# Altium footprint library MEGA.PcbLib: 237 footprints (part 11 of 15)
Each footprint in its own frame and in the unit in brackets; x right, y up, seen from the top. Pads: shape width x height; smd on the part's side, far side on the other; paste and mask are expansions set on the pad; w line width, h text height; cw(c..) or ccw(c..) is an arc to the next point about the centre after c.
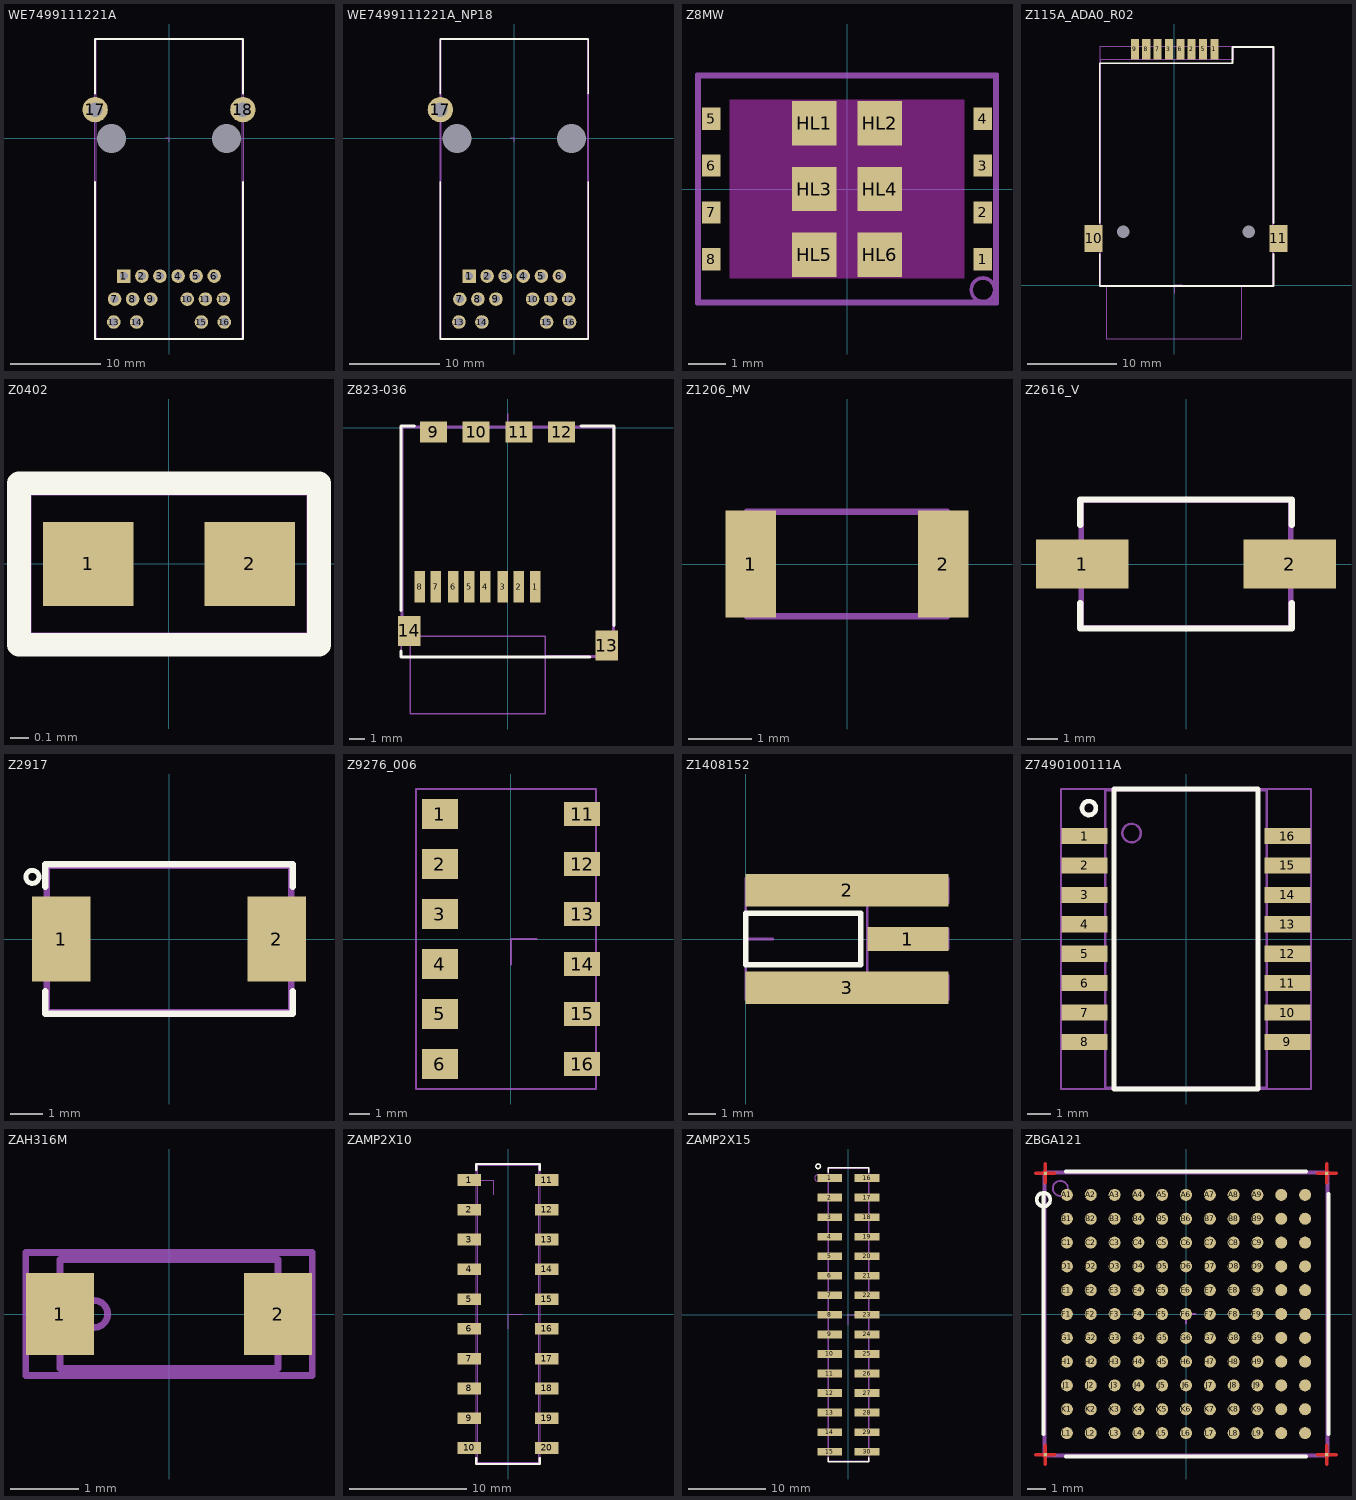
[diagram p10: the footprints below, top view; thin cyan lines are the x and y axes]

## WE7499111221A [mm]
height 17.27
pads (20):
  rect 1.5x1.5 hole 0.9 mask+0.05: 1(-5,-15.24)
  round 1.5 hole 0.9 mask+0.05: 2(-3,-15.24) 3(-1,-15.24) 4(1,-15.24) 5(3,-15.24) 6(5,-15.24) 7(-6.025,-17.78) 8(-4.025,-17.78) 9(-2.025,-17.78) 10(2.025,-17.78) 11(4.025,-17.78) 12(6.025,-17.78)
  round 1.5 hole 1 mask+0.05: 13(-6.12,-20.32) 14(-3.58,-20.32) 15(3.58,-20.32) 16(6.12,-20.32)
  round 2.8 hole 1.6 mask+0.05: 17(-8.175,3.18) 18(8.175,3.18)
  round 0 hole 3.2 unplated: HL1(6.35,0) HL2(-6.35,0)
Top Overlay:
  lines w0.2: -8.191,-4.805 -8.191,-22.2 8.191,-22.2 8.191,-4.805 ; -8.191,4.953 -8.191,11 8.191,11 8.191,4.953
Mechanical 15:
  lines w0.1: -8.128,-22.1 -8.128,10.9 8.128,10.9 8.128,-22.1 -8.128,-22.1
Mechanical 19:
  lines w0.1: -0.381,0 0,0 0,-0.381
Mechanical 20:
  lines w0.1: -8.191,-22.2 8.191,-22.2 8.191,11 -8.191,11 -8.191,-22.2

## WE7499111221A_NP18 [mm]
height 17.27
pads (19):
  rect 1.5x1.5 hole 0.9 mask+0.05: 1(-5,-15.24)
  round 1.5 hole 0.9 mask+0.05: 2(-3,-15.24) 3(-1,-15.24) 4(1,-15.24) 5(3,-15.24) 6(5,-15.24) 7(-6.025,-17.78) 8(-4.025,-17.78) 9(-2.025,-17.78) 10(2.025,-17.78) 11(4.025,-17.78) 12(6.025,-17.78)
  round 1.5 hole 1 mask+0.05: 13(-6.12,-20.32) 14(-3.58,-20.32) 15(3.58,-20.32) 16(6.12,-20.32)
  round 2.8 hole 1.6 mask+0.05: 17(-8.175,3.18)
  round 0 hole 3.2 unplated: HL1(6.35,0) HL2(-6.35,0)
Top Overlay:
  lines w0.2: -8.191,-4.805 -8.191,-22.2 8.191,-22.2 8.191,-4.805 ; -8.191,4.953 -8.191,11 8.191,11 8.191,4.953
Mechanical 15:
  lines w0.1: -8.128,-22.1 -8.128,10.9 8.128,10.9 8.128,-22.1 -8.128,-22.1
Mechanical 19:
  lines w0.1: -0.381,0 0,0 0,-0.381
Mechanical 20:
  lines w0.1: -8.191,-22.2 8.191,-22.2 8.191,11 -8.191,11 -8.191,-22.2

## Z8MW [mm]
pads (14):
  rect 0.5x0.6 smd paste-0.045 mask+0.05: 1(3.683,-1.905) 2(3.683,-0.635) 3(3.683,0.635) 4(3.683,1.905) 5(-3.683,1.905) 6(-3.683,0.635) 7(-3.683,-0.635) 8(-3.683,-1.905)
  rect 1.2x1.2 smd paste-0.09 mask+0.05: HL1(-0.889,1.778) HL2(0.889,1.778) HL3(-0.889,0) HL4(0.889,0) HL5(-0.889,-1.778) HL6(0.889,-1.778)
L1-Top Layer keep-out:
  region: -3.175,2.413 3.175,2.413 3.175,-2.413 -3.175,-2.413
Mechanical 15:
  circle w0.1: c3.683,-2.73 r0.318
  lines w0.1: -4,-3.048 -4,3.048 4,3.048 4,-3.048 -4,-3.048
Multi-Layer:
  text "Value" at -0.824,-0.681 h0.5
Mechanical 20:
  lines w0.1: -4.064,-3.111 -4.064,3.111 4.064,3.111 4.064,-3.111 -4.064,-3.111

## Z115A_ADA0_R02 [mm]
pads (12):
  rect 0.9x2.3 smd paste-0.17 mask+0.1: 1(4.51,26.4) 2(1.97,26.4) 3(-0.57,26.4) 5(3.24,26.4) 6(0.7,26.4) 7(-1.84,26.4) 8(-3.11,26.4) 9(-4.38,26.4)
  rect 2x3 smd paste-0.225 mask+0.1: 10(-8.99,5.25) 11(11.66,5.25)
  round 0 hole 1.4 unplated: HL1(8.34,6) HL2(-5.66,6)
Top Overlay:
  lines w0.2: -8.319,3.492 -8.319,-0.064 11.112,-0.064 11.112,3.492 ; -8.319,6.985 -8.319,24.828 6.54,24.828 6.54,26.67 11.112,26.67 11.112,6.985
Mechanical 15:
  lines w0.1: -8.253,0 -8.253,25.25 6.606,25.25 6.606,26.591 11.051,26.591 11.051,0 -8.253,0 ; -7.5,-6 7.5,-6 7.5,0 -7.5,0 -7.5,-6
Multi-Layer:
  text "Value" at -0.091,13.974 h0.75
Mechanical 19:
  lines w0.1: 0,-0.9 0,0 0.91,0
Mechanical 20:
  lines w0.1: -8.319,-0.064 -8.319,26.67 11.112,26.67 11.112,-0.064 -8.319,-0.064

## Z0402 [mm]
height 0.55
pads (2):
  rect 0.5x0.46 smd mask+0.05: 1(-0.445,0) 2(0.445,0)
Top Overlay:
  lines w0.13: -0.826,-0.445 0.826,-0.445 0.826,0.445 -0.826,0.445 -0.826,-0.445
Mechanical 15:
  lines w0.01: -0.762,-0.381 0.762,-0.381 0.762,0.381 -0.762,0.381 -0.762,-0.381
Multi-Layer:
  text "Value" at -0.514,-0.105 h0.4
Mechanical 20:
  lines w0.01: -0.826,-0.445 0.826,-0.445 0.826,0.445 -0.826,0.445 -0.826,-0.445

## Z823-036 [mm]
pads (14):
  rect 0.7x2.1 smd paste-0.115 mask+0.05: 1(1.826,-10.604) 2(0.747,-10.604) 3(-0.333,-10.604) 4(-1.476,-10.604) 5(-2.555,-10.604) 6(-3.635,-10.604) 7(-4.778,-10.604) 8(-5.85,-10.604)
  rect 1.8x1.4 smd paste-0.135 mask+0.05: 9(-4.95,-0.3) 10(-2.1,-0.3) 11(0.75,-0.3) 12(3.6,-0.3)
  rect 1.5x2 smd paste-0.15 mask+0.05: 13(6.6,-14.55) 14(-6.55,-13.55)
Top Overlay:
  lines w0.2: -7.1,-14.9 -7.1,-15.3 5.5,-15.3 ; -7.1,-12.2 -7.1,0.1 -6.2,0.1 ; 4.9,0.1 7.1,0.1 7.1,-13.2
Mechanical 15:
  lines w0.1: -6.5,-13.9 -6.5,-14.2 -7,-14.2 -7,0 7,0 7,-15.2 2.5,-15.2 2.5,-13.9 ; -6.5,-13.9 2.5,-13.9 ; -6.5,-13.9 -6.5,-19.1 2.5,-19.1 2.5,-13.9 ; -6.5,-13.9 2.5,-13.9
Multi-Layer:
  text "Value" at -1.235,-7.125 h0.75
Mechanical 19:
  lines w0.1: -0.91,0 0,0 0,0.9
Mechanical 20:
  lines w0.1: -7.1,0.064 -7.1,-15.3 7.1,-15.3 7.1,0.1 -7.048,0.1

## Z1206_MV [mm]
pads (2):
  rect 0.8x1.7 smd paste-0.13 mask+0.05: 1(-1.524,0) 2(1.524,0)
Mechanical 15:
  lines w0.1: -1.587,-0.826 1.587,-0.826 1.587,0.826 -1.587,0.826 -1.587,-0.826

## Z2616_V [mm]
pads (2):
  rect 3x1.6 smd paste-0.225 mask+0.05: 1(-3.365,0) 2(3.365,0)
Top Overlay:
  lines w0.2: -3.429,-1.27 -3.429,-2.095 3.429,-2.095 3.429,-1.27 ; -3.429,1.27 -3.429,2.095 3.429,2.095 3.429,1.27
Mechanical 15:
  lines w0.1: -3.365,-2.032 3.365,-2.032 3.365,2.032 -3.365,2.032 -3.365,-2.032
Multi-Layer:
  text "Value" at -1.235,-1.314 h0.75
Mechanical 20:
  lines w0.1: -3.429,-2.095 3.429,-2.095 3.429,2.095 -3.429,2.095 -3.429,-2.095

## Z2917 [mm]
pads (2):
  rect 1.8x2.6 smd paste-0.195 mask+0.05: 1(-3.302,0) 2(3.302,0)
Top Overlay:
  circle w0.15: c-4.191,1.905 r0.2
  lines w0.2: -3.8,-1.6 -3.8,-2.3 3.8,-2.3 3.8,-1.6 ; -3.8,1.6 -3.8,2.3 3.8,2.3 3.8,1.6
Mechanical 15:
  lines w0.1: -3.7,-2.2 3.7,-2.2 3.7,2.2 -3.7,2.2 -3.7,-2.2
  text "+" at -3.457,1.129 h1.25
Multi-Layer:
  text "Value" at -1.235,-1.822 h0.75
Mechanical 20:
  lines w0.1: -3.8,-2.3 3.8,-2.3 3.8,2.3 -3.8,2.3 -3.8,-2.3

## Z9276_006 [mm]
pads (12):
  rect 1.8x1.5 smd paste-0.135 mask+0.05: 1(-3.556,6.25) 2(-3.556,3.75) 3(-3.556,1.25) 4(-3.556,-1.25) 5(-3.556,-3.75) 6(-3.556,-6.25)
  rect 1.8x1.2 smd paste-0.135 mask+0.05: 11(3.556,6.25) 12(3.556,3.75) 13(3.556,1.25) 14(3.556,-1.25) 15(3.556,-3.75) 16(3.556,-6.25)
Mechanical 15:
  lines w0.1: -4.75,-7.5 4.25,-7.5 4.25,7.5 -4.75,7.5 -4.75,-7.5
Mechanical 19:
  lines w0.1: 0,-1.27 0,0 1.27,0

## Z1408152 [mm]
pads (3):
  rect 3x0.9 smd mask+0.05: 1(6,0)
  rect 7.5x1.2 smd mask+0.05: 2(3.75,1.8) 3(3.75,-1.8)
Top Overlay:
  lines w0.2: 0,-0.953 4.255,-0.953 4.255,0.953 0,0.953 0,-0.953
Mechanical 15:
  lines w0.1: 4.5,-2.25 4.5,2.25 ; 4.5,-2.25 0,-2.25 0,2.25 4.5,2.25 ; 4.5,-2.25 7.5,-2.25 7.5,-1.35 4.5,-1.35 4.5,-2.25 ; 4.5,2.25 7.5,2.25 7.5,1.35 4.5,1.35 4.5,2.25 ; 4.5,-0.35 7.5,-0.35 7.5,0.35 4.5,0.35 4.5,-0.35
Multi-Layer:
  text "Value" at 1.365,-0.725 h0.75
Mechanical 19:
  lines w0.1: 0,-1 0,0 1,0 ; 0,-1.75 0,1.75 4.5,1.75 4.5,-1.75 0,-1.75

## Z7490100111A [mm]
height 1.75
pads (16):
  rect 2x0.7 smd paste-0.15 mask+0.05: 1(-4.381,4.445) 2(-4.381,3.175) 3(-4.381,1.905) 4(-4.381,0.635) 5(-4.381,-0.635) 6(-4.381,-1.905) 7(-4.381,-3.175) 8(-4.381,-4.445) 9(4.381,-4.445) 10(4.381,-3.175) 11(4.381,-1.905) 12(4.381,-0.635) 13(4.381,0.635) 14(4.381,1.905) 15(4.381,3.175) 16(4.381,4.445)
Top Overlay:
  circle w0.2: c-4.191,5.651 r0.3
  lines w0.2: -3.111,-6.477 3.111,-6.477 3.111,6.477 -3.111,6.477 -3.111,-6.477
Mechanical 15:
  circle w0.1: c-2.349,4.572 r0.4
  lines w0.1: -3.492,-6.413 3.492,-6.413 3.492,6.413 -3.492,6.413 -3.492,-6.413
Multi-Layer:
  text "Value" at -1.299,-1.568 h0.75
Mechanical 20:
  lines w0.1: -5.397,-6.477 5.397,-6.477 5.397,6.477 -5.397,6.477 -5.397,-6.477

## ZAH316M [mm]
height 1.25
pads (2):
  rect 1x1.2 smd paste-0.09 mask+0.05: 1(-1.6,0) 2(1.6,0)
Mechanical 15:
  circle w0.1: c-1.1,0 r0.2
  lines w0.1: -1.6,-0.8 1.6,-0.8 1.6,0.8 -1.6,0.8 -1.6,-0.8
Mechanical 20:
  lines w0.1: -2.1,-0.9 2.1,-0.9 2.1,0.9 -2.1,0.9 -2.1,-0.9

## ZAMP2X10 [mm]
pads (20):
  rect 2x1 smd paste-0.15 mask+0.1: 1(-3.302,11.43) 2(-3.302,8.89) 3(-3.302,6.35) 4(-3.302,3.81) 5(-3.302,1.27) 6(-3.302,-1.27) 7(-3.302,-3.81) 8(-3.302,-6.35) 9(-3.302,-8.89) 10(-3.302,-11.43) 11(3.302,11.43) 12(3.302,8.89) 13(3.302,6.35) 14(3.302,3.81) 15(3.302,1.27) 16(3.302,-1.27) 17(3.302,-3.81) 18(3.302,-6.35) 19(3.302,-8.89) 20(3.302,-11.43)
Top Overlay:
  lines w0.2: -2.7,-12.3 -2.7,-12.8 2.7,-12.8 2.7,-12.3 ; -2.7,12.3 -2.7,12.8 2.7,12.8 2.7,12.3
Mechanical 15:
  lines w0.1: -2.6,-12.7 2.6,-12.7 2.6,12.7 -2.6,12.7 -2.6,-12.7
Multi-Layer:
  text "Value" at -1.235,-1.695 h0.75
Mechanical 19:
  lines w0.1: -2.54,11.43 -1.27,11.43 -1.27,10.16 ; 0,-1.27 0,0 1.27,0
Mechanical 20:
  lines w0.1: -2.7,-12.8 2.7,-12.8 2.7,12.8 -2.7,12.8 -2.7,-12.8

## ZAMP2X15 [mm]
pads (30):
  rect 3.2x1 smd paste-0.35 mask+0.05: 1(-2.413,17.78) 2(-2.413,15.24) 3(-2.413,12.7) 4(-2.413,10.16) 5(-2.413,7.62) 6(-2.413,5.08) 7(-2.413,2.54) 8(-2.413,0) 9(-2.413,-2.54) 10(-2.413,-5.08) 11(-2.413,-7.62) 12(-2.413,-10.16) 13(-2.413,-12.7) 14(-2.413,-15.24) 15(-2.413,-17.78) 16(2.413,17.78) 17(2.413,15.24) 18(2.413,12.7) 19(2.413,10.16) 20(2.413,7.62) 21(2.413,5.08) 22(2.413,2.54) 23(2.413,0) 24(2.413,-2.54) 25(2.413,-5.08) 26(2.413,-7.62) 27(2.413,-10.16) 28(2.413,-12.7) 29(2.413,-15.24) 30(2.413,-17.78)
Top Overlay:
  circle w0.2: c-3.937,19.304 r0.3
  lines w0.2: -2.603,-18.542 -2.603,-19.113 2.603,-19.113 2.603,-18.542 ; -2.603,18.542 -2.603,19.113 2.603,19.113 2.603,18.542
Mechanical 15:
  circle w0.1: c-4,17.78 r0.4
  lines w0.1: -2.54,-19.05 2.54,-19.05 2.54,19.05 -2.54,19.05 -2.54,-19.05
Multi-Layer:
  text "Value" at -1.235,-1.695 h0.75
Mechanical 19:
  lines w0.1: 0,-1.27 0,0 1.27,0
Mechanical 20:
  lines w0.1: -2.603,-19.113 2.603,-19.113 2.603,19.113 -2.603,19.113 -2.603,-19.113

## ZBGA121 [mm]
pads (125):
  round 0.64 smd paste-0.05 mask+0.05: A1(-6.35,6.35) A2(-5.08,6.35) A3(-3.81,6.35) A4(-2.54,6.35) A5(-1.27,6.35) A6(0,6.35) A7(1.27,6.35) A8(2.54,6.35) A9(3.81,6.35) A10(5.08,6.35) A11(6.35,6.35) B1(-6.35,5.08) B2(-5.08,5.08) B3(-3.81,5.08) B4(-2.54,5.08) B5(-1.27,5.08) B6(0,5.08) B7(1.27,5.08) B8(2.54,5.08) B9(3.81,5.08) B10(5.08,5.08) B11(6.35,5.08) C1(-6.35,3.81) C2(-5.08,3.81) C3(-3.81,3.81) C4(-2.54,3.81) C5(-1.27,3.81) C6(0,3.81) C7(1.27,3.81) C8(2.54,3.81) C9(3.81,3.81) C10(5.08,3.81) C11(6.35,3.81) D1(-6.35,2.54) D2(-5.08,2.54) D3(-3.81,2.54) D4(-2.54,2.54) D5(-1.27,2.54) D6(0,2.54) D7(1.27,2.54) D8(2.54,2.54) D9(3.81,2.54) D10(5.08,2.54) D11(6.35,2.54) E1(-6.35,1.27) E2(-5.08,1.27) E3(-3.81,1.27) E4(-2.54,1.27) E5(-1.27,1.27) E6(0,1.27) E7(1.27,1.27) E8(2.54,1.27) E9(3.81,1.27) E10(5.08,1.27) E11(6.35,1.27) F1(-6.35,0) F2(-5.08,0) F3(-3.81,0) F4(-2.54,0) F5(-1.27,0) F6(0,0) F7(1.27,0) F8(2.54,0) F9(3.81,0) F10(5.08,0) F11(6.35,0) G1(-6.35,-1.27) G2(-5.08,-1.27) G3(-3.81,-1.27) G4(-2.54,-1.27) G5(-1.27,-1.27) G6(0,-1.27) G7(1.27,-1.27) G8(2.54,-1.27) G9(3.81,-1.27) G10(5.08,-1.27) G11(6.35,-1.27) H1(-6.35,-2.54) H2(-5.08,-2.54) H3(-3.81,-2.54) H4(-2.54,-2.54) H5(-1.27,-2.54) H6(0,-2.54) H7(1.27,-2.54) H8(2.54,-2.54) H9(3.81,-2.54) H10(5.08,-2.54) H11(6.35,-2.54) J1(-6.35,-3.81) J2(-5.08,-3.81) J3(-3.81,-3.81) J4(-2.54,-3.81) J5(-1.27,-3.81) J6(0,-3.81) J7(1.27,-3.81) J8(2.54,-3.81) J9(3.81,-3.81) J10(5.08,-3.81) J11(6.35,-3.81) K1(-6.35,-5.08) K2(-5.08,-5.08) K3(-3.81,-5.08) K4(-2.54,-5.08) K5(-1.27,-5.08) K6(0,-5.08) K7(1.27,-5.08) K8(2.54,-5.08) K9(3.81,-5.08) K10(5.08,-5.08) K11(6.35,-5.08) L1(-6.35,-6.35) L2(-5.08,-6.35) L3(-3.81,-6.35) L4(-2.54,-6.35) L5(-1.27,-6.35) L6(0,-6.35) L7(1.27,-6.35) L8(2.54,-6.35) L9(3.81,-6.35) L10(5.08,-6.35) L11(6.35,-6.35)
  round 0.2 smd mask+0.05: HL1(-7.5,7.5) HL2(-7.5,-7.5) HL3(7.5,-7.5) HL4(7.5,7.5)
L1-Top Layer:
  lines w0.2: -8,-7.5 -7,-7.5 ; -8,7.5 -7,7.5 ; -7.5,-8 -7.5,-7 ; -7.5,7 -7.5,8 ; 7,-7.5 8,-7.5 ; 7,7.5 8,7.5 ; 7.5,-8 7.5,-7 ; 7.5,7 7.5,8
Top Overlay:
  circle w0.2: c-7.6,6.1 r0.361
  lines w0.2: -7.6,-6.4 -7.6,6.4 ; -6.4,-7.6 6.4,-7.6 ; -6.4,7.6 6.4,7.6 ; 7.6,-6.4 7.6,6.4
Top Solder:
  lines w0.3: -8,-7.5 -7,-7.5 ; -8,7.5 -7,7.5 ; -7.5,-8 -7.5,-7 ; -7.5,7 -7.5,8 ; 7,-7.5 8,-7.5 ; 7,7.5 8,7.5 ; 7.5,-8 7.5,-7 ; 7.5,7 7.5,8
Mechanical 15:
  circle w0.1: c-6.7,6.7 r0.4
  lines w0.1: -7.5,-7.5 7.5,-7.5 7.5,7.5 -7.5,7.5 -7.5,-7.5
Mechanical 19:
  lines w0.1: 0,-0.5 0,0 0.5,0
Mechanical 20:
  lines w0.1: -7.6,-7.6 7.6,-7.6 7.6,7.6 -7.6,7.6 -7.6,-7.6